# EAGLE library part MCP23017-E/SP (library MCP23017-E_SP)
MCP23017 Series 5.5 V 1.7 MHz SMT 16-Bit I2C I/O Expander - SPDIP-28 Check availability <https://pricing.snapeda.com/parts/MCP23017-E/SP/Microchip/view-part?ref=eda>
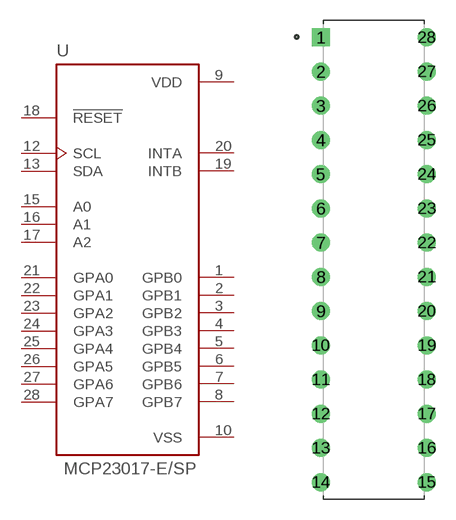
[diagram p0: symbol with the pads of DIP787W45P254L3556H508Q28; footprint DIP787W45P254L3556H508Q28]

Designator prefix U

## MCP23017-E/SP (Availability: In Stock; Description: I/O Expander 16 I²C 1.7 MHz 28-SPDIP; MF: Microchip; MP: MCP23017-E/SP; Package: DIP-28 Microchip; Price: None; Purchase-URL: https://pricing.snapeda.com/search/part/MCP23017-E/SP/?ref=eda)  [DIP787W45P254L3556H508Q28]
1  GPB0
2  GPB1
3  GPB2
4  GPB3
5  GPB4
6  GPB5
7  GPB6
8  GPB7
9  VDD  pwr
10  VSS  pwr
12  SCL  in
13  SDA
15  A0  in
16  A1  in
17  A2  in
18  !RESET  in
19  INTB  out
20  INTA  out
21  GPA0
22  GPA1
23  GPA2
24  GPA3
25  GPA4
26  GPA5
27  GPA6
28  GPA7

## Footprint DIP787W45P254L3556H508Q28 (pad centres in mm)
drill 0.82 pad 1.23 square: 1 -3.935,16.51
drill 0.82 pad 1.23: 2 -3.935,13.97; 3 -3.935,11.43; 4 -3.935,8.89; 5 -3.935,6.35; 6 -3.935,3.81; 7 -3.935,1.27; 8 -3.935,-1.27; 9 -3.935,-3.81; 10 -3.935,-6.35; 11 -3.935,-8.89; 12 -3.935,-11.43; 13 -3.935,-13.97; 14 -3.935,-16.51; 15 3.935,-16.51; 16 3.935,-13.97; 17 3.935,-11.43; 18 3.935,-8.89; 19 3.935,-6.35; 20 3.935,-3.81; 21 3.935,-1.27; 22 3.935,1.27; 23 3.935,3.81; 24 3.935,6.35; 25 3.935,8.89; 26 3.935,11.43; 27 3.935,13.97; 28 3.935,16.51